# Altium footprint library Synthiam.PcbLib: 481 footprints (part 12 of 31)
Each footprint in its own frame and in the unit in brackets; x right, y up, seen from the top. Pads: shape width x height; smd on the part's side, far side on the other; paste and mask are expansions set on the pad; w line width, h text height; cw(c..) or ccw(c..) is an arc to the next point about the centre after c.
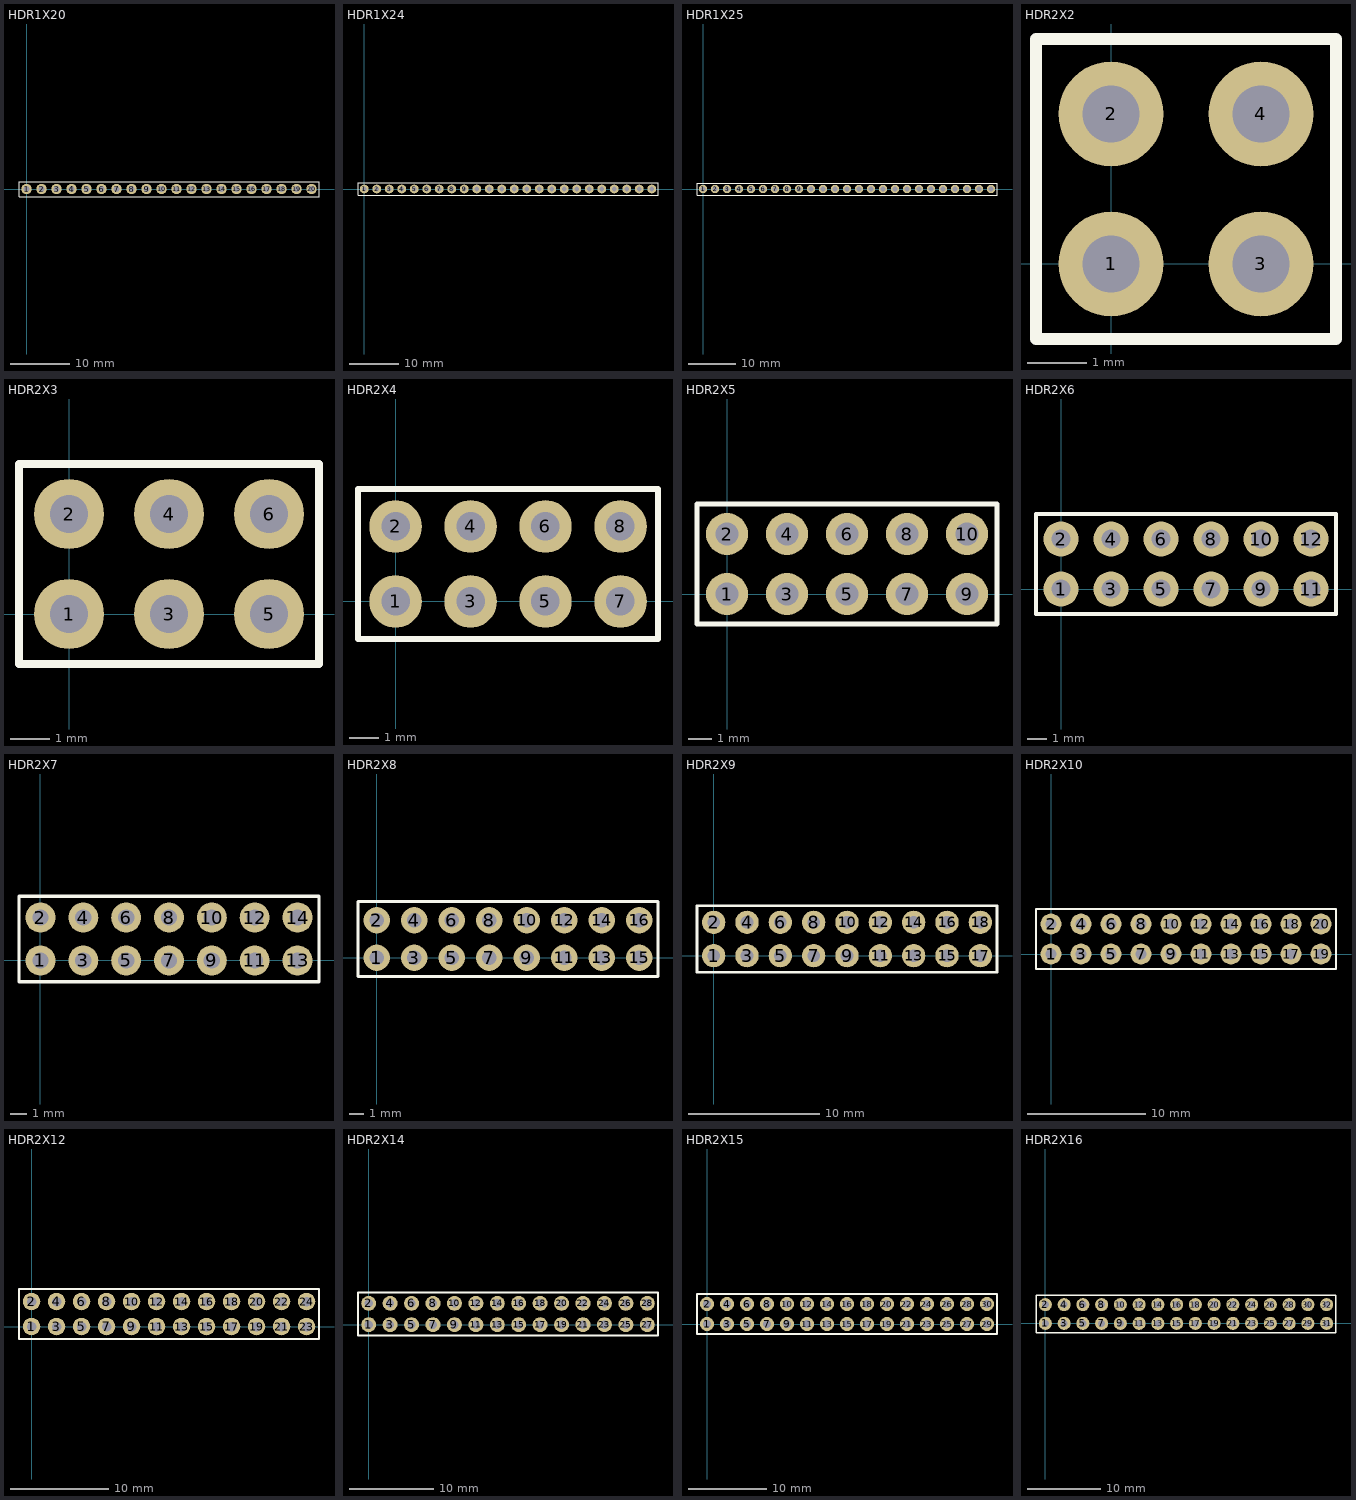
[diagram p11: the footprints below, top view; thin cyan lines are the x and y axes]

## HDR1X20 [mil] "Connector; Header; 20 Position"
pads (20):
  round 70 hole 38: 1(0,0) 2(100,0) 3(200,0) 4(300,0) 5(400,0) 6(500,0) 7(600,0) 8(700,0) 9(800,0) 10(900,0) 11(1000,0) 12(1100,0) 13(1200,0) 14(1300,0) 15(1400,0) 16(1500,0) 17(1600,0) 18(1700,0) 19(1800,0) 20(1900,0)
Top Overlay:
  lines w7.87: -50,-50 -50,50 25,50 1950,50 1950,-50 -50,-50

## HDR1X24 [mil] "Connector; Header; 24 Position"
pads (24):
  round 70 hole 38: 1(0,0) 2(100,0) 3(200,0) 4(300,0) 5(400,0) 6(500,0) 7(600,0) 8(700,0) 9(800,0) 10(900,0) 11(1000,0) 12(1100,0) 13(1200,0) 14(1300,0) 15(1400,0) 16(1500,0) 17(1600,0) 18(1700,0) 19(1800,0) 20(1900,0) 21(2000,0) 22(2100,0) 23(2200,0) 24(2300,0)
Top Overlay:
  lines w7.87: -50,-50 -50,50 25,50 2350,50 2350,-50 -50,-50

## HDR1X25 [mil] "Connector; Header; 25 Position"
pads (25):
  round 70 hole 38: 1(0,0) 2(100,0) 3(200,0) 4(300,0) 5(400,0) 6(500,0) 7(600,0) 8(700,0) 9(800,0) 10(900,0) 11(1000,0) 12(1100,0) 13(1200,0) 14(1300,0) 15(1400,0) 16(1500,0) 17(1600,0) 18(1700,0) 19(1800,0) 20(1900,0) 21(2000,0) 22(2100,0) 23(2200,0) 24(2300,0) 25(2400,0)
Top Overlay:
  lines w7.87: -50,-50 -50,50 25,50 2450,50 2450,-50 -50,-50

## HDR2X2 [mil]
pads (4):
  round 70 hole 38: 1(0,0) 2(0,100) 3(100,0) 4(100,100)
Top Overlay:
  lines w7.87: -50,-50 -50,150 150,150 150,-50 -50,-50

## HDR2X3 [mil]
pads (6):
  round 70 hole 38: 1(0,0) 2(0,100) 3(100,0) 4(100,100) 5(200,0) 6(200,100)
Top Overlay:
  lines w7.87: -50,-50 -50,150 250,150 250,-50 -50,-50

## HDR2X4 [mil]
pads (8):
  round 70 hole 38: 1(0,0) 2(0,100) 3(100,0) 4(100,100) 5(200,0) 6(200,100) 7(300,0) 8(300,100)
Top Overlay:
  lines w7.87: -50,-50 -50,150 350,150 350,-50 -50,-50

## HDR2X5 [mil]
pads (10):
  round 70 hole 38: 1(0,0) 2(0,100) 3(100,0) 4(100,100) 5(200,0) 6(200,100) 7(300,0) 8(300,100) 9(400,0) 10(400,100)
Top Overlay:
  lines w7.87: -50,-50 450,-50 450,150 -50,150 -50,-50

## HDR2X6 [mil]
pads (12):
  round 70 hole 38: 1(0,0) 2(0,100) 3(100,0) 4(100,100) 5(200,0) 6(200,100) 7(300,0) 8(300,100) 9(400,0) 10(400,100) 11(500,0) 12(500,100)
Top Overlay:
  lines w7.87: -50,-50 550,-50 550,150 -50,150 -50,-50

## HDR2X7 [mil]
pads (14):
  round 70 hole 38: 1(0,0) 2(0,100) 3(100,0) 4(100,100) 5(200,0) 6(200,100) 7(300,0) 8(300,100) 9(400,0) 10(400,100) 11(500,0) 12(500,100) 13(600,0) 14(600,100)
Top Overlay:
  lines w7.87: -50,-50 -50,150 650,150 650,-50 -50,-50

## HDR2X8 [mil] "Connector; Header; 8x2 Position"
pads (16):
  round 70 hole 38: 1(0,0) 2(0,100) 3(100,0) 4(100,100) 5(200,0) 6(200,100) 7(300,0) 8(300,100) 9(400,0) 10(400,100) 11(500,0) 12(500,100) 13(600,0) 14(600,100) 15(700,0) 16(700,100)
Top Overlay:
  lines w7.87: -50,-50 -50,150 750,150 750,-50 -50,-50

## HDR2X9 [mil]
pads (18):
  round 70 hole 38: 1(0,0) 2(0,100) 3(100,0) 4(100,100) 5(200,0) 6(200,100) 7(300,0) 8(300,100) 9(400,0) 10(400,100) 11(500,0) 12(500,100) 13(600,0) 14(600,100) 15(700,0) 16(700,100) 17(800,0) 18(800,100)
Top Overlay:
  lines w7.87: -50,-50 850,-50 850,150 -50,150 -50,-50

## HDR2X10 [mil] "Connector; Header; 10x2 Position"
pads (20):
  round 70 hole 38: 1(0,0) 2(0,100) 3(100,0) 4(100,100) 5(200,0) 6(200,100) 7(300,0) 8(300,100) 9(400,0) 10(400,100) 11(500,0) 12(500,100) 13(600,0) 14(600,100) 15(700,0) 16(700,100) 17(800,0) 18(800,100) 19(900,0) 20(900,100)
Top Overlay:
  lines w7.87: -50,-50 25,-50 950,-50 950,150 25,150 -50,150 -50,-50

## HDR2X12 [mil] "Connector; Header; 12x2 Position"
pads (24):
  round 70 hole 38: 1(0,0) 2(0,100) 3(100,0) 4(100,100) 5(200,0) 6(200,100) 7(300,0) 8(300,100) 9(400,0) 10(400,100) 11(500,0) 12(500,100) 13(600,0) 14(600,100) 15(700,0) 16(700,100) 17(800,0) 18(800,100) 19(900,0) 20(900,100) 21(1000,0) 22(1000,100) 23(1100,0) 24(1100,100)
Top Overlay:
  lines w7.87: -50,-50 1150,-50 1150,150 -50,150 -50,-50

## HDR2X14 [mil] "Connector; Header; 14x2 Position"
pads (28):
  round 70 hole 38: 1(0,0) 2(0,100) 3(100,0) 4(100,100) 5(200,0) 6(200,100) 7(300,0) 8(300,100) 9(400,0) 10(400,100) 11(500,0) 12(500,100) 13(600,0) 14(600,100) 15(700,0) 16(700,100) 17(800,0) 18(800,100) 19(900,0) 20(900,100) 21(1000,0) 22(1000,100) 23(1100,0) 24(1100,100) 25(1200,0) 26(1200,100) 27(1300,0) 28(1300,100)
Top Overlay:
  lines w7.87: -50,-50 -50,150 1350,150 1350,-50 -50,-50

## HDR2X15 [mil] "Connector; Header; 15x2 Position"
pads (30):
  round 70 hole 38: 1(0,0) 2(0,100) 3(100,0) 4(100,100) 5(200,0) 6(200,100) 7(300,0) 8(300,100) 9(400,0) 10(400,100) 11(500,0) 12(500,100) 13(600,0) 14(600,100) 15(700,0) 16(700,100) 17(800,0) 18(800,100) 19(900,0) 20(900,100) 21(1000,0) 22(1000,100) 23(1100,0) 24(1100,100) 25(1200,0) 26(1200,100) 27(1300,0) 28(1300,100) 29(1400,0) 30(1400,100)
Top Overlay:
  lines w7.87: -50,-50 1450,-50 1450,150 -50,150 -50,-50

## HDR2X16 [mil] "Connector; Header; 16x2 Position"
pads (32):
  round 70 hole 38: 1(0,0) 2(0,100) 3(100,0) 4(100,100) 5(200,0) 6(200,100) 7(300,0) 8(300,100) 9(400,0) 10(400,100) 11(500,0) 12(500,100) 13(600,0) 14(600,100) 15(700,0) 16(700,100) 17(800,0) 18(800,100) 19(900,0) 20(900,100) 21(1000,0) 22(1000,100) 23(1100,0) 24(1100,100) 25(1200,0) 26(1200,100) 27(1300,0) 28(1300,100) 29(1400,0) 30(1400,100) 31(1500,0) 32(1500,100)
Top Overlay:
  lines w7.87: -50,-50 1550,-50 1550,150 -50,150 -50,-50